# Altium integrated library NSC Amplifier.IntLib: 715 symbols (part 18 of 19)
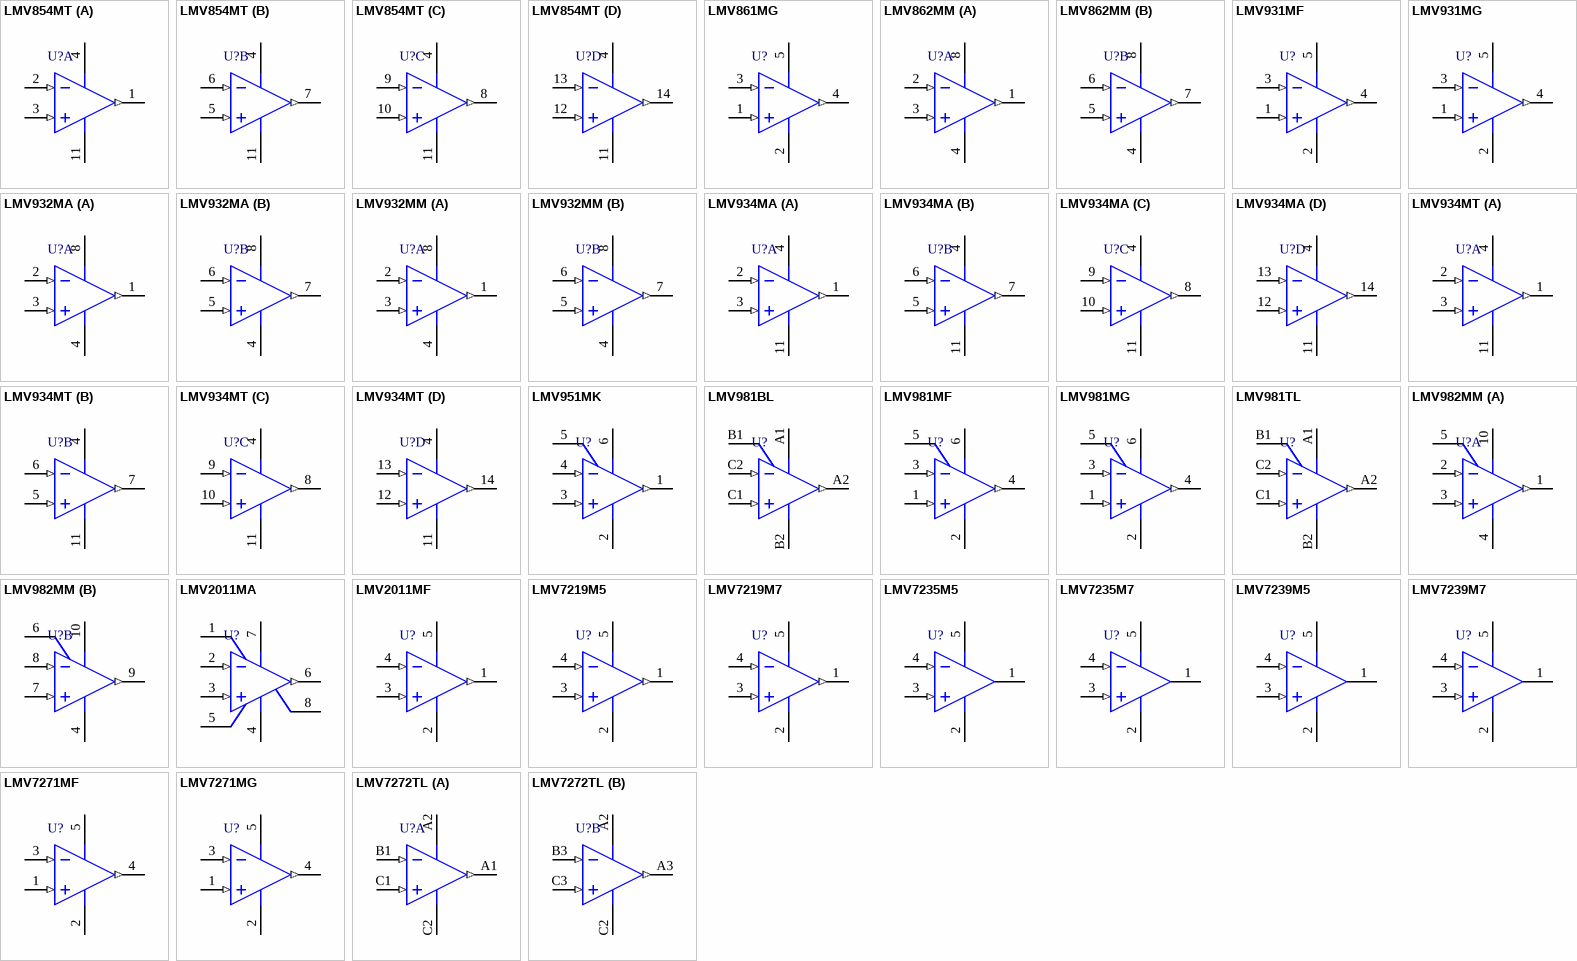
[diagram p55: symbols LMV854MT to LMV7272TL]

## LMV951MK
designator U?
1V, 2.7 MHz, Rail-to-Rail Input and  Output Amplifier with Shutdown Option; PartNumber: LMV951MK; Manufacturer: National Semiconductor; CompType: Amplifiers; PackageTopMarking: AS3A*XTT; Published: 4-Dec-2008; LatestRevisionDate: 13-Jan-2009; LatestRevisionNote: Sim Model Added.; DatasheetVersion: Dec-2006; PackageVersion: revD, Jul-2005; PackageReference: MK06A; Publisher: Altium Limited; PackageDescription: Molded TSOT, 2.97 x 1.65 x 0.87mm Body, 6 Lead, 0.95mm Pitch; RoHS: Y; PinCount: 6; DigiKeyPartNumber: LMV951MKCT-ND; Code_JEDEC: MO-193-AA; Code_IPC: SOT26A-6; ComponentLink1Description: LMV951 Datasheet; ComponentLink1URL: http://www.national.com/ds/LM/LMV951.pdf; ComponentLink2Description: LMV951 Web Page; ComponentLink2URL: http://www.national.com/pf/LM/LMV951.html; ComponentLink3Description: MK06A Package Page; ComponentLink3URL: http://www.national.com/packaging/folders/mk06a.html
footprint MK06A_N (SOT23, 6-Leads, Body 3.0x1.7mm, Pitch 0.95mm, Lead Span 2.9mm, IPC Medium Density)
footprint MK06A_L (SOT23, 6-Leads, Body 3.0x1.7mm, Pitch 0.95mm, Lead Span 2.9mm, IPC High Density)
footprint MK06A_M (SOT23, 6-Leads, Body 3.0x1.7mm, Pitch 0.95mm, Lead Span 2.9mm, IPC Low Density)
simulation model LMV951 (SUBCKT)
pins: 1 OUT (out), 2 V- (power), 3 IN+ (in), 4 IN- (in), 5 SHDN, 6 V+ (power)

## LMV981BL
designator U?
Single 1.8V, RRIO Operational Amplifiers with Shutdown; PartNumber: LMV981BL; Manufacturer: National Semiconductor; PackageTopMarking: XVA*I A; Published: 4-Dec-2008; LatestRevisionDate: 13-Jan-2009; LatestRevisionNote: Sim Model Added.; DatasheetVersion: Nov-2005; PackageVersion: revB, Feb-2002; PackageReference: BLA06AAB; Publisher: Altium Limited; PackageDescription: Thin Micro SMD, 6 Bump (Large), 0.5mm Pitch; CompType: Amplifiers; RoHS: N; PinCount: 6; DigiKeyPartNumber: LMV981BLCT-ND; Code_JEDEC: MO-211-BB; ComponentLink1Description: LMV981 Datasheet; ComponentLink1URL: http://www.national.com/ds/LM/LMV981.pdf; ComponentLink2Description: LMV981 Web Page; ComponentLink2URL: http://www.national.com/pf/LM/LMV981.html; ComponentLink3Description: BLA06AAB Package Page; ComponentLink3URL: http://www.national.com/packaging/folders/bla06aab.html
footprint BLA06AAB (Micro SMD, 6-Leads, Body 1.52x1.01mm, Pitch 0.5mm, NSC Recommended)
simulation model LMV981 (SUBCKT)
pins: A1 VDD (power), A2 OUT (out), B1 ~{SHDN}, B2 GND (power), C1 IN+ (in), C2 IN- (in)

## LMV981MF
designator U?
Single 1.8V, RRIO Operational Amplifiers with Shutdown; PartNumber: LMV981MF; Manufacturer: National Semiconductor; PackageTopMarking: A78A*XTT; Published: 4-Dec-2008; LatestRevisionDate: 13-Jan-2009; LatestRevisionNote: Sim Model Added.; DatasheetVersion: Nov-2005; PackageVersion: revC, Sep-2005; PackageReference: MF06A; Publisher: Altium Limited; PackageDescription: Molded SOT-23, .115 x .063 x .040in Body, 6 Lead, .0375in in Pitch; CompType: Amplifiers; RoHS: Y; PinCount: 6; DigiKeyPartNumber: LMV981MFCT-ND; Code_JEDEC: MO-178-AB; Code_IPC: SOT26A-6; ComponentLink1Description: LMV981 Datasheet; ComponentLink1URL: http://www.national.com/ds/LM/LMV981.pdf; ComponentLink2Description: LMV981 Web Page; ComponentLink2URL: http://www.national.com/pf/LM/LMV981.html; ComponentLink3Description: MF06A Package Page; ComponentLink3URL: http://www.national.com/packaging/folders/mf06a.html
footprint MF06A_N (SOT23, 6-Leads, Body 2.9x1.6mm, Pitch 0.95mm, Lead Span 2.8mm, IPC Medium Density)
footprint MF06A_L (SOT23, 6-Leads, Body 2.9x1.6mm, Pitch 0.95mm, Lead Span 2.8mm, IPC High Density)
footprint MF06A_M (SOT23, 6-Leads, Body 2.9x1.6mm, Pitch 0.95mm, Lead Span 2.8mm, IPC Low Density)
simulation model LMV981 (SUBCKT)
pins: 1 IN+ (in), 2 GND (power), 3 IN- (in), 4 OUT (out), 5 ~{SHDN}, 6 VDD (power)

## LMV981MG
designator U?
Single 1.8V, RRIO Operational Amplifiers with Shutdown; PartNumber: LMV981MG; Manufacturer: National Semiconductor; PackageTopMarking: A77*XTT; Published: 4-Dec-2008; LatestRevisionDate: 13-Jan-2009; LatestRevisionNote: Sim Model Added.; DatasheetVersion: Nov-2005; PackageVersion: revB, Jun-2007; PackageReference: MAA06A; Publisher: Altium Limited; PackageDescription: Molded SC-70, 2 x 1.25 x .9mm, 6 Lead, 0.65mm Pitch; CompType: Amplifiers; RoHS: O; PinCount: 6; DigiKeyPartNumber: LMV981MGCT-ND; ComponentLink1Description: LMV981 Datasheet; ComponentLink1URL: http://www.national.com/ds/LM/LMV981.pdf; ComponentLink2Description: LMV981 Web Page; ComponentLink2URL: http://www.national.com/pf/LM/LMV981.html; ComponentLink3Description: MAA06A Package Page; ComponentLink3URL: http://www.national.com/packaging/folders/maa06a.html
footprint MAA06A_N (SOT363, 6-Leads, Body 2x1.3mm, Pitch 0.65mm, Lead Span 2.1mm, IPC Medium Density)
footprint MAA06A_L (SOT363, 6-Leads, Body 2x1.3mm, Pitch 0.65mm, Lead Span 2.1mm, IPC High Density)
footprint MAA06A_M (SOT363, 6-Leads, Body 2x1.3mm, Pitch 0.65mm, Lead Span 2.1mm, IPC Low Density)
simulation model LMV981 (SUBCKT)
pins: 1 IN+ (in), 2 GND (power), 3 IN- (in), 4 OUT (out), 5 ~{SHDN}, 6 VDD (power)

## LMV981TL
designator U?
Single 1.8V, RRIO Operational Amplifiers with Shutdown; PartNumber: LMV981TL; Manufacturer: National Semiconductor; PackageTopMarking: XVA*I H; Published: 4-Dec-2008; LatestRevisionDate: 13-Jan-2009; LatestRevisionNote: Sim Model Added.; DatasheetVersion: Nov-2005; PackageVersion: revC, Jan-2004; PackageReference: TLA06BBA; Publisher: Altium Limited; PackageDescription: Thin Micro SMD, 6 Bump (Large), 0.5mm Pitch; CompType: Amplifiers; RoHS: Y; PinCount: 6; DigiKeyPartNumber: LMV981TLCT-ND; Code_JEDEC: MO-211-DB; ComponentLink1Description: LMV981 Datasheet; ComponentLink1URL: http://www.national.com/ds/LM/LMV981.pdf; ComponentLink2Description: LMV981 Web Page; ComponentLink2URL: http://www.national.com/pf/LM/LMV981.html; ComponentLink3Description: TLA06BBA Package Page; ComponentLink3URL: http://www.national.com/packaging/folders/tla06bba.html
footprint TLA06BBA (Micro SMD, 6-Leads, Body 1.54x1.03mm, Pitch 0.5mm, NSC Recommended)
simulation model LMV981 (SUBCKT)
pins: A1 VDD (power), A2 OUT (out), B1 ~{SHDN}, B2 GND (power), C1 IN+ (in), C2 IN- (in)

## LMV982MM
designator U?
Dual 1.8V, RRIO Operational Amplifiers with Shutdown; PartNumber: LMV982MM; Manufacturer: National Semiconductor; PackageTopMarking: ZXTT*A87A; Published: 4-Dec-2008; LatestRevisionDate: 13-Jan-2009; LatestRevisionNote: Sim Model Added.; DatasheetVersion: Nov-2005; PackageVersion: revB, Jul-2003; PackageReference: MUB10A; Publisher: Altium Limited; PackageDescription: Mini-SO, Molded, .118 x .118 x .034in Body, 10 Lead, .0197in Pitch; CompType: Amplifiers; RoHS: Y; PinCount: 10; DigiKeyPartNumber: LMV982MMCT-ND; Code_JEDEC: MO-187-BA; ComponentLink1Description: LMV982 Datasheet; ComponentLink1URL: http://www.national.com/ds/LM/LMV982.pdf; ComponentLink2Description: LMV982 Web Page; ComponentLink2URL: http://www.national.com/pf/LM/LMV982.html; ComponentLink3Description: MUB10A Package Page; ComponentLink3URL: http://www.national.com/packaging/folders/mub10a.html
footprint MUB10A_N (TSSOP, 10-Leads, Body 3x3mm, Pitch 0.5mm, IPC Medium Density)
footprint MUB10A_L (TSSOP, 10-Leads, Body 3x3mm, Pitch 0.5mm, IPC High Density)
footprint MUB10A_M (TSSOP, 10-Leads, Body 3x3mm, Pitch 0.5mm, IPC Low Density)
simulation model LMV981 (SUBCKT)
pins on every part: 4 V- (power), 10 V+ (power)
part A pins: 1 OUTA (out), 2 INA- (in), 3 INA+ (in), 5 ~{SHDNA}
part B pins: 6 ~{SHDNB}, 7 INB+ (in), 8 INB- (in), 9 OUTB (out)

## LMV2011MA
designator U?
High Precision, Rail-to-Rail Output Operational Amplifier; PartNumber: LMV2011MA; Manufacturer: National Semiconductor; CompType: Amplifiers; PackageTopMarking: NSZXTT*LMV20*11MA; Published: 4-Dec-2008; LatestRevisionDate: 13-Jan-2009; LatestRevisionNote: Sim Model Added.; DatasheetVersion: Jul-2008; PackageVersion: revL, Sep-2006; PackageReference: M08A; Publisher: Altium Limited; PackageDescription: SOIC Narrow, 4.9 x 3.9 x 1.45mm, 8 Lead, 1.27mm Pitch; RoHS: Y; PinCount: 8; DigiKeyPartNumber: LMV2011MA-ND; Code_JEDEC: MS-012-AA; Code_IPC: SOIC127P600-8; ComponentLink1Description: LMV2011 Datasheet; ComponentLink1URL: http://www.national.com/ds/LM/LMV2011.pdf; ComponentLink2Description: LMV2011 Web Page; ComponentLink2URL: http://www.national.com/pf/LM/LMV2011.html; ComponentLink3Description: M08A Package Page; ComponentLink3URL: http://www.national.com/packaging/folders/m08a.html
footprint M08A_N (SOIC, 8-Leads, Body 4.9x3.9mm, Pitch 1.27mm, IPC Medium Density)
footprint M08A_L (SOIC, 8-Leads, Body 4.9x3.9mm, Pitch 1.27mm, IPC High Density)
footprint M08A_M (SOIC, 8-Leads, Body 4.9x3.9mm, Pitch 1.27mm, IPC Low Density)
simulation model LMV2011 (SUBCKT)
pins: 1 NC, 2 IN- (in), 3 IN+ (in), 4 V- (power), 5 NC, 6 OUT (out), 7 V+ (power), 8 NC

## LMV2011MF
designator U?
High Precision, Rail-to-Rail Output Operational Amplifier; PartNumber: LMV2011MF; Manufacturer: National Semiconductor; CompType: Amplifiers; PackageTopMarking: A84A*XTT; Published: 4-Dec-2008; LatestRevisionDate: 13-Jan-2009; LatestRevisionNote: Sim Model Added.; DatasheetVersion: Jul-2008; PackageVersion: revD, Aug-2008; PackageReference: MF05A; Publisher: Altium Limited; PackageDescription: Molded SOT-23, .115 x .063 x .040 in Body, 5 Lead, .0375 in Pitch; RoHS: O; PinCount: 5; DigiKeyPartNumber: LMV2011MFCT-ND; Code_IPC: SOT23-5; ComponentLink1Description: LMV2011 Datasheet; ComponentLink1URL: http://www.national.com/ds/LM/LMV2011.pdf; ComponentLink2Description: LMV2011 Web Page; ComponentLink2URL: http://www.national.com/pf/LM/LMV2011.html; ComponentLink3Description: MF05A Package Page; ComponentLink3URL: http://www.national.com/packaging/folders/mf05a.html
footprint MF05A_N (SOT23, 5-Leads, Body 2.9x1.6mm, Pitch 0.95mm, Lead Span 2.8mm, IPC Medium Density)
footprint MF05A_L (SOT23, 5-Leads, Body 2.9x1.6mm, Pitch 0.95mm, Lead Span 2.8mm, IPC High Density)
footprint MF05A_M (SOT23, 5-Leads, Body 2.9x1.6mm, Pitch 0.95mm, Lead Span 2.8mm, IPC Low Density)
simulation model LMV2011 (SUBCKT)
pins: 1 OUT (out), 2 V- (power), 3 IN+ (in), 4 IN- (in), 5 V+ (power)

## LMV7219M5
designator U?
7 nsec, 2.7V to 5V Comparator with Rail-to- Rail Output; PartNumber: LMV7219M5; Manufacturer: National Semiconductor; CompType: Amplifiers; PackageTopMarking: C14A*XTT; Published: 4-Dec-2008; LatestRevisionDate: 13-Jan-2009; LatestRevisionNote: Sim Model Added.; DatasheetVersion: Nov-2004; PackageVersion: revD, Aug-2008; PackageReference: MF05A; Publisher: Altium Limited; PackageDescription: Molded SOT-23, .115 x .063 x .040 in Body, 5 Lead, .0375 in Pitch; RoHS: O; PinCount: 5; DigiKeyPartNumber: LMV7219M5CT-ND; Code_IPC: SOT23-5; ComponentLink1Description: LMV7219 Datasheet; ComponentLink1URL: http://www.national.com/ds/LM/LMV7219.pdf; ComponentLink2Description: LMV7219 Web Page; ComponentLink2URL: http://www.national.com/pf/LM/LMV7219.html; ComponentLink3Description: MF05A Package Page; ComponentLink3URL: http://www.national.com/packaging/folders/mf05a.html
footprint MF05A_N (SOT23, 5-Leads, Body 2.9x1.6mm, Pitch 0.95mm, Lead Span 2.8mm, IPC Medium Density)
footprint MF05A_L (SOT23, 5-Leads, Body 2.9x1.6mm, Pitch 0.95mm, Lead Span 2.8mm, IPC High Density)
footprint MF05A_M (SOT23, 5-Leads, Body 2.9x1.6mm, Pitch 0.95mm, Lead Span 2.8mm, IPC Low Density)
simulation model LMV7219 (SUBCKT)
pins: 1 OUT (out), 2 V- (power), 3 IN+ (in), 4 IN- (in), 5 V+ (power)

## LMV7219M7
designator U?
7 nsec, 2.7V to 5V Comparator with Rail-to- Rail Output; PartNumber: LMV7219M7; Manufacturer: National Semiconductor; CompType: Amplifiers; PackageTopMarking: C15*XTT; Published: 4-Dec-2008; LatestRevisionDate: 13-Jan-2009; LatestRevisionNote: Sim Model Added.; DatasheetVersion: Nov-2004; PackageVersion: revD, Jun-2007; PackageReference: MAA05A; Publisher: Altium Limited; PackageDescription: Molded SC-70, 2 x 1.25 x .9mm, 5 Lead, 0.65mm Pitch; RoHS: O; PinCount: 5; DigiKeyPartNumber: LMV7219M7CT-ND; Code_JEITA: SC-88A; Code_JEDEC: MO-203-AA; Code_IPC: SOT353-5; ComponentLink1Description: LMV7219 Datasheet; ComponentLink1URL: http://www.national.com/ds/LM/LMV7219.pdf; ComponentLink2Description: LMV7219 Web Page; ComponentLink2URL: http://www.national.com/pf/LM/LMV7219.html; ComponentLink3Description: MAA05A Package Page; ComponentLink3URL: http://www.national.com/packaging/folders/maa05a.html
footprint MAA05A_N (SOT353, 5-Leads, Body 2x1.3mm, Pitch 0.65mm, Lead Span 2.1mm, IPC Medium Density)
footprint MAA05A_L (SOT353, 5-Leads, Body 2x1.3mm, Pitch 0.65mm, Lead Span 2.1mm, IPC High Density)
footprint MAA05A_M (SOT353, 5-Leads, Body 2x1.3mm, Pitch 0.65mm, Lead Span 2.1mm, IPC Low Density)
simulation model LMV7219 (SUBCKT)
pins: 1 OUT (out), 2 V- (power), 3 IN+ (in), 4 IN- (in), 5 V+ (power)

## LMV7235M5
designator U?
45 nsec, Ultra Low Power, Low Voltage, Rail-toRail Input Comparator with Open-Drain/Push-Pull Output; PartNumber: LMV7235M5; Manufacturer: National Semiconductor; CompType: Amplifiers; PackageTopMarking: C21A*XTT; Published: 4-Dec-2008; DatasheetVersion: Jul-2008; PackageVersion: revD, Aug-2008; PackageReference: MF05A; Publisher: Altium Limited; PackageDescription: Molded SOT-23, .115 x .063 x .040 in Body, 5 Lead, .0375 in Pitch; RoHS: O; PinCount: 5; DigiKeyPartNumber: LMV7235M5CT-ND; Code_IPC: SOT23-5; ComponentLink1Description: LMV7235 Datasheet; ComponentLink1URL: http://www.national.com/ds/LM/LMV7235.pdf; ComponentLink2Description: LMV7235 Web Page; ComponentLink2URL: http://www.national.com/pf/LM/LMV7235.html; ComponentLink3Description: MF05A Package Page; ComponentLink3URL: http://www.national.com/packaging/folders/mf05a.html
footprint MF05A_N (SOT23, 5-Leads, Body 2.9x1.6mm, Pitch 0.95mm, Lead Span 2.8mm, IPC Medium Density)
footprint MF05A_L (SOT23, 5-Leads, Body 2.9x1.6mm, Pitch 0.95mm, Lead Span 2.8mm, IPC High Density)
footprint MF05A_M (SOT23, 5-Leads, Body 2.9x1.6mm, Pitch 0.95mm, Lead Span 2.8mm, IPC Low Density)
pins: 1 VOUT (oc), 2 V- (power), 3 IN+ (in), 4 IN- (in), 5 V+ (power)

## LMV7235M7
designator U?
45 nsec, Ultra Low Power, Low Voltage, Rail-toRail Input Comparator with Open-Drain/Push-Pull Output; PartNumber: LMV7235M7; Manufacturer: National Semiconductor; CompType: Amplifiers; PackageTopMarking: C21*XTT; Published: 4-Dec-2008; DatasheetVersion: Jul-2008; PackageVersion: revD, Jun-2007; PackageReference: MAA05A; Publisher: Altium Limited; PackageDescription: Molded SC-70, 2 x 1.25 x .9mm, 5 Lead, 0.65mm Pitch; RoHS: O; PinCount: 5; DigiKeyPartNumber: LMV7235M7CT-ND; Code_JEITA: SC-88A; Code_JEDEC: MO-203-AA; Code_IPC: SOT353-5; ComponentLink1Description: LMV7235 Datasheet; ComponentLink1URL: http://www.national.com/ds/LM/LMV7235.pdf; ComponentLink2Description: LMV7235 Web Page; ComponentLink2URL: http://www.national.com/pf/LM/LMV7235.html; ComponentLink3Description: MAA05A Package Page; ComponentLink3URL: http://www.national.com/packaging/folders/maa05a.html
footprint MAA05A_N (SOT353, 5-Leads, Body 2x1.3mm, Pitch 0.65mm, Lead Span 2.1mm, IPC Medium Density)
footprint MAA05A_L (SOT353, 5-Leads, Body 2x1.3mm, Pitch 0.65mm, Lead Span 2.1mm, IPC High Density)
footprint MAA05A_M (SOT353, 5-Leads, Body 2x1.3mm, Pitch 0.65mm, Lead Span 2.1mm, IPC Low Density)
pins: 1 VOUT (oc), 2 V- (power), 3 IN+ (in), 4 IN- (in), 5 V+ (power)

## LMV7239M5
designator U?
45 nsec, Ultra Low Power, Low Voltage, Rail-to-Rail Input Comparator with Open-Drain/Push-Pull Output; PartNumber: LMV7239M5; Manufacturer: National Semiconductor; CompType: Amplifiers; PackageTopMarking: C20A*XTT; Published: 4-Dec-2008; DatasheetVersion: Jul-2008; PackageVersion: revD, Aug-2008; PackageReference: MF05A; Publisher: Altium Limited; PackageDescription: Molded SOT-23, .115 x .063 x .040 in Body, 5 Lead, .0375 in Pitch; RoHS: O; PinCount: 5; DigiKeyPartNumber: LMV7239M5CT-ND; Code_IPC: SOT23-5; ComponentLink1Description: LMV7239 Datasheet; ComponentLink1URL: http://www.national.com/ds/LM/LMV7239.pdf; ComponentLink2Description: LMV7239 Web Page; ComponentLink2URL: http://www.national.com/pf/LM/LMV7239.html; ComponentLink3Description: MF05A Package Page; ComponentLink3URL: http://www.national.com/packaging/folders/mf05a.html
footprint MF05A_N (SOT23, 5-Leads, Body 2.9x1.6mm, Pitch 0.95mm, Lead Span 2.8mm, IPC Medium Density)
footprint MF05A_L (SOT23, 5-Leads, Body 2.9x1.6mm, Pitch 0.95mm, Lead Span 2.8mm, IPC High Density)
footprint MF05A_M (SOT23, 5-Leads, Body 2.9x1.6mm, Pitch 0.95mm, Lead Span 2.8mm, IPC Low Density)
pins: 1 VOUT (oc), 2 V- (power), 3 IN+ (in), 4 IN- (in), 5 V+ (power)

## LMV7239M7
designator U?
45 nsec, Ultra Low Power, Low Voltage, Rail-to-Rail Input Comparator with Open-Drain/Push-Pull Output; PartNumber: LMV7239M7; Manufacturer: National Semiconductor; CompType: Amplifiers; PackageTopMarking: C20*XTT; Published: 4-Dec-2008; DatasheetVersion: Jul-2008; PackageVersion: revD, Jun-2007; PackageReference: MAA05A; Publisher: Altium Limited; PackageDescription: Molded SC-70, 2 x 1.25 x .9mm, 5 Lead, 0.65mm Pitch; RoHS: O; PinCount: 5; DigiKeyPartNumber: LMV7239M7CT-ND; Code_JEITA: SC-88A; Code_JEDEC: MO-203-AA; Code_IPC: SOT353-5; ComponentLink1Description: LMV7239 Datasheet; ComponentLink1URL: http://www.national.com/ds/LM/LMV7239.pdf; ComponentLink2Description: LMV7239 Web Page; ComponentLink2URL: http://www.national.com/pf/LM/LMV7239.html; ComponentLink3Description: MAA05A Package Page; ComponentLink3URL: http://www.national.com/packaging/folders/maa05a.html
footprint MAA05A_N (SOT353, 5-Leads, Body 2x1.3mm, Pitch 0.65mm, Lead Span 2.1mm, IPC Medium Density)
footprint MAA05A_L (SOT353, 5-Leads, Body 2x1.3mm, Pitch 0.65mm, Lead Span 2.1mm, IPC High Density)
footprint MAA05A_M (SOT353, 5-Leads, Body 2x1.3mm, Pitch 0.65mm, Lead Span 2.1mm, IPC Low Density)
pins: 1 VOUT (oc), 2 V- (power), 3 IN+ (in), 4 IN- (in), 5 V+ (power)

## LMV7271MF
designator U?
Single 1.8V Low Power Comparators with Rail-to-Rail Input; PartNumber: LMV7271MF; Manufacturer: National Semiconductor; CompType: Amplifiers; PackageTopMarking: C25A*XTT; Published: 4-Dec-2008; LatestRevisionDate: 13-Jan-2009; LatestRevisionNote: Sim Model Added.; DatasheetVersion: May-2008; PackageVersion: revD, Aug-2008; PackageReference: MF05A; Publisher: Altium Limited; PackageDescription: Molded SOT-23, .115 x .063 x .040 in Body, 5 Lead, .0375 in Pitch; RoHS: Y; PinCount: 5; DigiKeyPartNumber: LMV7271MFCT-ND; Code_IPC: SOT23-5; ComponentLink1Description: LMV7271 Datasheet; ComponentLink1URL: http://www.national.com/ds/LM/LMV7271.pdf; ComponentLink2Description: LMV7271 Web Page; ComponentLink2URL: http://www.national.com/pf/LM/LMV7271.html; ComponentLink3Description: MF05A Package Page; ComponentLink3URL: http://www.national.com/packaging/folders/mf05a.html
footprint MF05A_N (SOT23, 5-Leads, Body 2.9x1.6mm, Pitch 0.95mm, Lead Span 2.8mm, IPC Medium Density)
footprint MF05A_L (SOT23, 5-Leads, Body 2.9x1.6mm, Pitch 0.95mm, Lead Span 2.8mm, IPC High Density)
footprint MF05A_M (SOT23, 5-Leads, Body 2.9x1.6mm, Pitch 0.95mm, Lead Span 2.8mm, IPC Low Density)
simulation model LMV7271 (SUBCKT)
pins: 1 IN+ (in), 2 GND (power), 3 IN- (in), 4 OUT (out), 5 V+ (power)

## LMV7271MG
designator U?
Single 1.8V Low Power Comparators with Rail-to-Rail Input; PartNumber: LMV7271MG; Manufacturer: National Semiconductor; CompType: Amplifiers; PackageTopMarking: C34*XTT; Published: 4-Dec-2008; LatestRevisionDate: 13-Jan-2009; LatestRevisionNote: Sim Model Added.; DatasheetVersion: May-2008; PackageVersion: revD, Jun-2007; PackageReference: MAA05A; Publisher: Altium Limited; PackageDescription: Molded SC-70, 2 x 1.25 x .9mm, 5 Lead, 0.65mm Pitch; RoHS: O; PinCount: 5; DigiKeyPartNumber: LMV7271MGCT-ND; Code_JEITA: SC-88A; Code_JEDEC: MO-203-AA; Code_IPC: SOT353-5; ComponentLink1Description: LMV7271 Datasheet; ComponentLink1URL: http://www.national.com/ds/LM/LMV7271.pdf; ComponentLink2Description: LMV7271 Web Page; ComponentLink2URL: http://www.national.com/pf/LM/LMV7271.html; ComponentLink3Description: MAA05A Package Page; ComponentLink3URL: http://www.national.com/packaging/folders/maa05a.html
footprint MAA05A_N (SOT353, 5-Leads, Body 2x1.3mm, Pitch 0.65mm, Lead Span 2.1mm, IPC Medium Density)
footprint MAA05A_L (SOT353, 5-Leads, Body 2x1.3mm, Pitch 0.65mm, Lead Span 2.1mm, IPC High Density)
footprint MAA05A_M (SOT353, 5-Leads, Body 2x1.3mm, Pitch 0.65mm, Lead Span 2.1mm, IPC Low Density)
simulation model LMV7271 (SUBCKT)
pins: 1 IN+ (in), 2 GND (power), 3 IN- (in), 4 OUT (out), 5 V+ (power)

## LMV7272TL
designator U?
Dual 1.8V Low Power Comparators with Rail-to-Rail Input; PartNumber: LMV7272TL; Manufacturer: National Semiconductor; CompType: Amplifiers; PackageTopMarking: XVC*I 01; Published: 4-Dec-2008; LatestRevisionDate: 13-Jan-2009; LatestRevisionNote: Sim Model Added.; DatasheetVersion: May-2008; PackageVersion: revC, Jan-2004; PackageReference: TLA08AAA; Publisher: Altium Limited; PackageDescription: Thin Micro SMD, 8 Bump (Large), 0.5mm Pitch; RoHS: O; PinCount: 8; DigiKeyPartNumber: LMV7272TLCT-ND; ComponentLink1Description: LMV7272 Datasheet; ComponentLink1URL: http://www.national.com/ds/LM/LMV7272.pdf; ComponentLink2Description: LMV7272 Web Page; ComponentLink2URL: http://www.national.com/pf/LM/LMV7272.html; ComponentLink3Description: TLA08AAA Package Page; ComponentLink3URL: http://www.national.com/packaging/folders/tla08aaa.html
footprint TLA08AAA (Micro SMD, 8-Leads, Body 1.52x1.52mm, Pitch 0.5mm, NSC Recommended)
simulation model LMV7271 (SUBCKT)
pins on every part: A2 V+ (power), C2 V- (power)
part A pins: A1 OUTA (out), B1 INA- (in), C1 INA+ (in)
part B pins: A3 OUTB (out), B3 INB- (in), C3 INB+ (in)

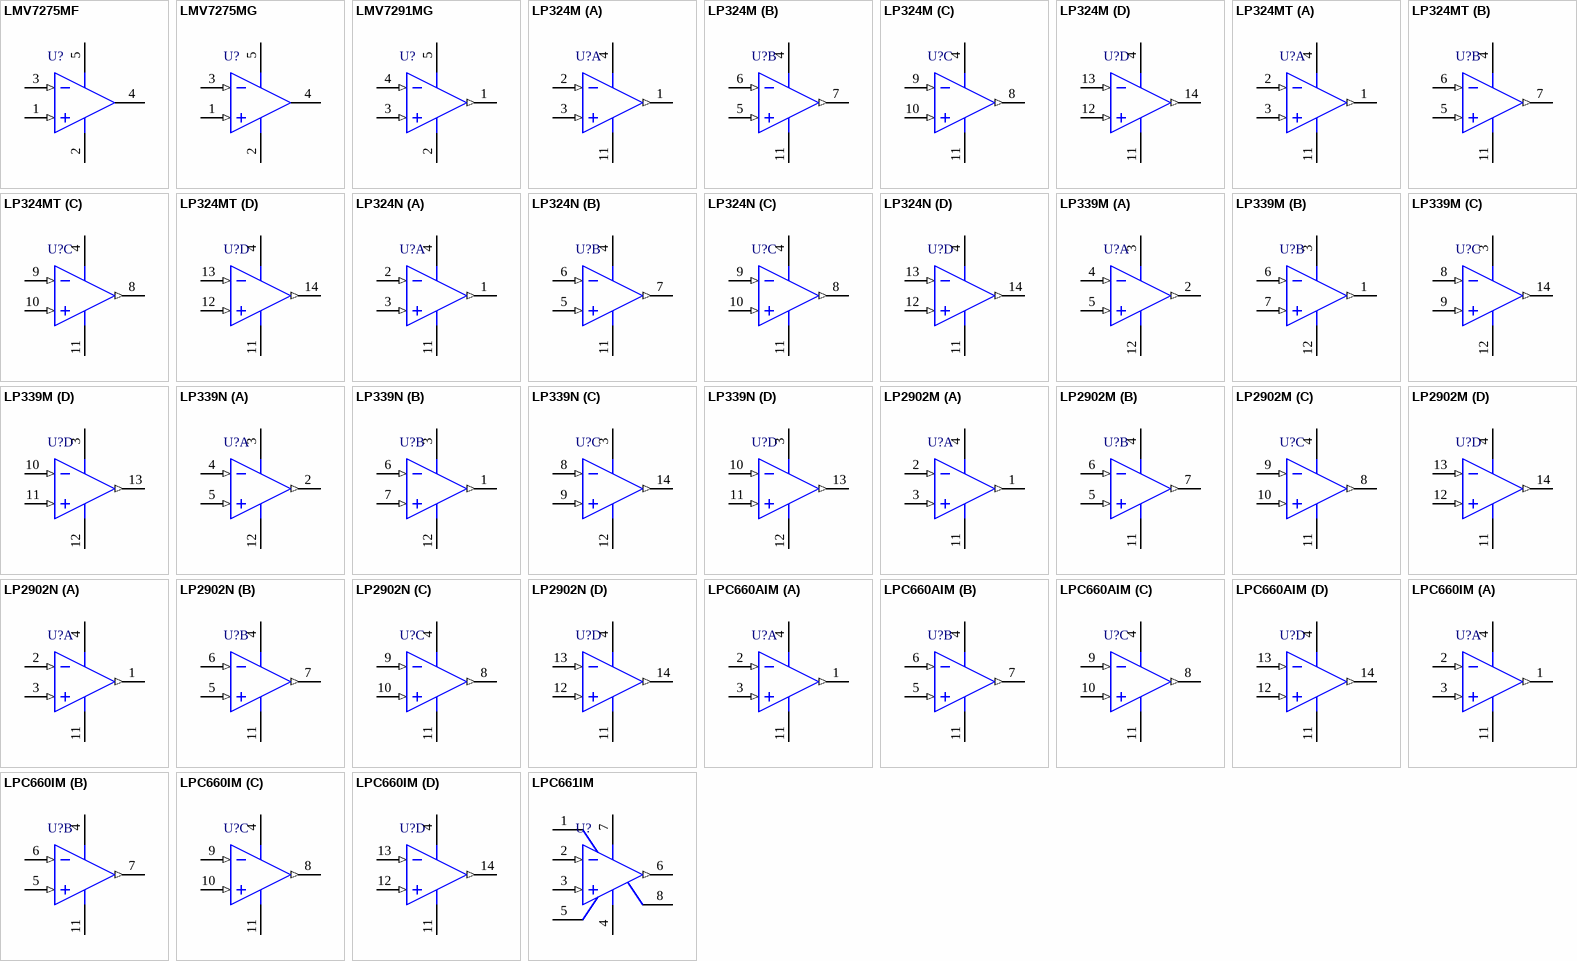
[diagram p37: symbols LMV7275MF to LPC661IM]

## LMV7275MF
designator U?
Single 1.8V Low Power Comparators with Rail-to-Rail Input; PartNumber: LMV7275MF; Manufacturer: National Semiconductor; CompType: Amplifiers; PackageTopMarking: C26A*XTT; Published: 4-Dec-2008; LatestRevisionDate: 13-Jan-2009; LatestRevisionNote: Sim Model Added.; DatasheetVersion: May-2008; PackageVersion: revD, Aug-2008; PackageReference: MF05A; Publisher: Altium Limited; PackageDescription: Molded SOT-23, .115 x .063 x .040 in Body, 5 Lead, .0375 in Pitch; RoHS: O; PinCount: 5; DigiKeyPartNumber: LMV7275MFCT-ND; Code_IPC: SOT23-5; ComponentLink1Description: LMV7275 Datasheet; ComponentLink1URL: http://www.national.com/ds/LM/LMV7275.pdf; ComponentLink2Description: LMV7275 Web Page; ComponentLink2URL: http://www.national.com/pf/LM/LMV7275.html; ComponentLink3Description: MF05A Package Page; ComponentLink3URL: http://www.national.com/packaging/folders/mf05a.html
footprint MF05A_N (SOT23, 5-Leads, Body 2.9x1.6mm, Pitch 0.95mm, Lead Span 2.8mm, IPC Medium Density)
footprint MF05A_L (SOT23, 5-Leads, Body 2.9x1.6mm, Pitch 0.95mm, Lead Span 2.8mm, IPC High Density)
footprint MF05A_M (SOT23, 5-Leads, Body 2.9x1.6mm, Pitch 0.95mm, Lead Span 2.8mm, IPC Low Density)
simulation model LMV7271 (SUBCKT)
pins: 1 IN+ (in), 2 GND (power), 3 IN- (in), 4 OUT (oc), 5 V+ (power)

## LMV7275MG
designator U?
Single 1.8V Low Power Comparators with Rail-to-Rail Input; PartNumber: LMV7275MG; Manufacturer: National Semiconductor; CompType: Amplifiers; PackageTopMarking: C35*XTT; Published: 4-Dec-2008; LatestRevisionDate: 13-Jan-2009; LatestRevisionNote: Sim Model Added.; DatasheetVersion: May-2008; PackageVersion: revD, Jun-2007; PackageReference: MAA05A; Publisher: Altium Limited; PackageDescription: Molded SC-70, 2 x 1.25 x .9mm, 5 Lead, 0.65mm Pitch; RoHS: O; PinCount: 5; DigiKeyPartNumber: LMV7275MGCT-ND; Code_JEITA: SC-88A; Code_JEDEC: MO-203-AA; Code_IPC: SOT353-5; ComponentLink1Description: LMV7275 Datasheet; ComponentLink1URL: http://www.national.com/ds/LM/LMV7275.pdf; ComponentLink2Description: LMV7275 Web Page; ComponentLink2URL: http://www.national.com/pf/LM/LMV7275.html; ComponentLink3Description: MAA05A Package Page; ComponentLink3URL: http://www.national.com/packaging/folders/maa05a.html
footprint MAA05A_N (SOT353, 5-Leads, Body 2x1.3mm, Pitch 0.65mm, Lead Span 2.1mm, IPC Medium Density)
footprint MAA05A_L (SOT353, 5-Leads, Body 2x1.3mm, Pitch 0.65mm, Lead Span 2.1mm, IPC High Density)
footprint MAA05A_M (SOT353, 5-Leads, Body 2x1.3mm, Pitch 0.65mm, Lead Span 2.1mm, IPC Low Density)
simulation model LMV7271 (SUBCKT)
pins: 1 IN+ (in), 2 GND (power), 3 IN- (in), 4 OUT (oc), 5 V+ (power)

## LMV7291MG
designator U?
Single 1.8V Power Comparator with Rail-to-Rail Input; PartNumber: LMV7291MG; Manufacturer: National Semiconductor; CompType: Amplifiers; PackageTopMarking: C36*XTT; Published: 4-Dec-2008; LatestRevisionDate: 13-Jan-2009; LatestRevisionNote: Sim Model Added.; DatasheetVersion: Mar-2004; PackageVersion: revD, Jun-2007; PackageReference: MAA05A; Publisher: Altium Limited; PackageDescription: Molded SC-70, 2 x 1.25 x .9mm, 5 Lead, 0.65mm Pitch; RoHS: Y; PinCount: 5; DigiKeyPartNumber: LMV7291MGCT-ND; Code_JEITA: SC-88A; Code_JEDEC: MO-203-AA; Code_IPC: SOT353-5; ComponentLink1Description: LMV7291 Datasheet; ComponentLink1URL: http://www.national.com/ds/LM/LMV7291.pdf; ComponentLink2Description: LMV7291 Web Page; ComponentLink2URL: http://www.national.com/pf/LM/LMV7291.html; ComponentLink3Description: MAA05A Package Page; ComponentLink3URL: http://www.national.com/packaging/folders/maa05a.html
footprint MAA05A_N (SOT353, 5-Leads, Body 2x1.3mm, Pitch 0.65mm, Lead Span 2.1mm, IPC Medium Density)
footprint MAA05A_L (SOT353, 5-Leads, Body 2x1.3mm, Pitch 0.65mm, Lead Span 2.1mm, IPC High Density)
footprint MAA05A_M (SOT353, 5-Leads, Body 2x1.3mm, Pitch 0.65mm, Lead Span 2.1mm, IPC Low Density)
simulation model LMV7271 (SUBCKT)
pins: 1 OUT (out), 2 GND (power), 3 IN+ (in), 4 IN- (in), 5 V+ (power)

## LP324M
designator U?
Micropower Quad Operational Amplifier; PartNumber: LP324M; Manufacturer: National Semiconductor; CompType: Amplifiers; PackageTopMarking: NSUZXYTT*LP324M; Published: 4-Dec-2008; DatasheetVersion: Jul-2001; PackageVersion: revJ, Jan-1996; PackageReference: M14A; Publisher: Altium Limited; PackageDescription: Molded Package S.O., .150in Wide, 14 Lead; RoHS: O; PinCount: 14; DigiKeyPartNumber: LP324MXCT-ND; Code_JEDEC: MS-012AB; Code_IPC: SOIC127P600-14; ComponentLink1Description: LP324 Datasheet; ComponentLink1URL: http://www.national.com/ds/LP/LP324.pdf; ComponentLink2Description: LP324 Web Page; ComponentLink2URL: http://www.national.com/pf/LP/LP324.html; ComponentLink3Description: M14A Package Page; ComponentLink3URL: http://www.national.com/packaging/folders/m14a.html
footprint M14A_N (SOIC, 14-Leads, Body 8.6x3.9mm, Pitch 1.27mm, IPC Medium Density)
footprint M14A_L (SOIC, 14-Leads, Body 8.6x3.9mm, Pitch 1.27mm, IPC High Density)
footprint M14A_M (SOIC, 14-Leads, Body 8.6x3.9mm, Pitch 1.27mm, IPC Low Density)
pins on every part: 4 V+ (power), 11 GND (power)
part A pins: 1 OUT1 (out), 2 IN1- (in), 3 IN1+ (in)
part B pins: 5 IN2+ (in), 6 IN2- (in), 7 OUT2 (out)
part C pins: 8 OUT3 (out), 9 IN3- (in), 10 IN3+ (in)
part D pins: 12 IN4+ (in), 13 IN4- (in), 14 OUT4 (out)

## LP324MT
designator U?
Micropower Quad Operational Amplifier; PartNumber: LP324MT; Manufacturer: National Semiconductor; CompType: Amplifiers; PackageTopMarking: NSZXYTT*LP324*MT; Published: 4-Dec-2008; DatasheetVersion: Jul-2001; PackageVersion: revD, Jun-2003; PackageReference: MTC14; Publisher: Altium Limited; PackageDescription: Molded TSSOP, JEDEC, 5 x 4.4 x 0.9mm Body, 14 Lead, 0.65mm Pitch; RoHS: Y; PinCount: 14; DigiKeyPartNumber: LP324MT-ND; Code_JEDEC: MO-153-AB-1; ComponentLink1Description: LP324 Datasheet; ComponentLink1URL: http://www.national.com/ds/LP/LP324.pdf; ComponentLink2Description: LP324 Web Page; ComponentLink2URL: http://www.national.com/pf/LP/LP324.html; ComponentLink3Description: MTC14 Package Page; ComponentLink3URL: http://www.national.com/packaging/folders/mtc14.html
footprint MTC14_N (TSOP, 14-Leads, Body 5x4.4mm, Pitch 0.65mm, IPC Medium Density)
footprint MTC14_L (TSOP, 14-Leads, Body 5x4.4mm, Pitch 0.65mm, IPC High Density)
footprint MTC14_M (TSOP, 14-Leads, Body 5x4.4mm, Pitch 0.65mm, IPC Low Density)
pins on every part: 4 V+ (power), 11 GND (power)
part A pins: 1 OUT1 (out), 2 IN1- (in), 3 IN1+ (in)
part B pins: 5 IN2+ (in), 6 IN2- (in), 7 OUT2 (out)
part C pins: 8 OUT3 (out), 9 IN3- (in), 10 IN3+ (in)
part D pins: 12 IN4+ (in), 13 IN4- (in), 14 OUT4 (out)

## LP324N
designator U?
Micropower Quad Operational Amplifier; PartNumber: LP324N; Manufacturer: National Semiconductor; CompType: Amplifiers; PackageTopMarking: NSUZXYYTTE#*LP324N; Published: 4-Dec-2008; DatasheetVersion: Jul-2001; PackageVersion: revG, May-2006; PackageReference: N14A; Publisher: Altium Limited; PackageDescription: MDIP, .750 x .250 x.130in, 14 Lead, .100in Pitch; RoHS: Y; PinCount: 14; DigiKeyPartNumber: LP324N-ND; Code_JEDEC: MS-001-AA; ComponentLink1Description: LP324 Datasheet; ComponentLink1URL: http://www.national.com/ds/LP/LP324.pdf; ComponentLink2Description: LP324 Web Page; ComponentLink2URL: http://www.national.com/pf/LP/LP324.html; ComponentLink3Description: N14A Package Page; ComponentLink3URL: http://www.national.com/packaging/folders/n14a.html
footprint N14A (DIP, 14-Leads, Row Spacing 7.62mm, Pitch 2.54mm, Body 19.56x6.35mm)
pins on every part: 4 V+ (power), 11 GND (power)
part A pins: 1 OUT1 (out), 2 IN1- (in), 3 IN1+ (in)
part B pins: 5 IN2+ (in), 6 IN2- (in), 7 OUT2 (out)
part C pins: 8 OUT3 (out), 9 IN3- (in), 10 IN3+ (in)
part D pins: 12 IN4+ (in), 13 IN4- (in), 14 OUT4 (out)

## LP339M
designator U?
Ultra-Low Power Quad Comparator; PartNumber: LP339M; Manufacturer: National Semiconductor; CompType: Amplifiers; PackageTopMarking: NSUZXYTT*LP339M; Published: 4-Dec-2008; DatasheetVersion: Aug-2000; PackageVersion: revJ, Jan-1996; PackageReference: M14A; Publisher: Altium Limited; PackageDescription: Molded Package S.O., .150in Wide, 14 Lead; RoHS: O; PinCount: 14; DigiKeyPartNumber: LP339MXCT-ND; Code_JEDEC: MS-012AB; Code_IPC: SOIC127P600-14; ComponentLink1Description: LP339 Datasheet; ComponentLink1URL: http://www.national.com/ds/LP/LP339.pdf; ComponentLink2Description: LP339 Web Page; ComponentLink2URL: http://www.national.com/pf/LP/LP339.html; ComponentLink3Description: M14A Package Page; ComponentLink3URL: http://www.national.com/packaging/folders/m14a.html
footprint M14A_N (SOIC, 14-Leads, Body 8.6x3.9mm, Pitch 1.27mm, IPC Medium Density)
footprint M14A_L (SOIC, 14-Leads, Body 8.6x3.9mm, Pitch 1.27mm, IPC High Density)
footprint M14A_M (SOIC, 14-Leads, Body 8.6x3.9mm, Pitch 1.27mm, IPC Low Density)
pins on every part: 3 V+ (power), 12 GND (power)
part A pins: 2 OUT1 (out), 4 IN1- (in), 5 IN1+ (in)
part B pins: 1 OUT2 (out), 6 IN2- (in), 7 IN2+ (in)
part C pins: 8 IN3- (in), 9 IN3+ (in), 14 OUT3 (out)
part D pins: 10 IN4- (in), 11 IN4+ (in), 13 OUT4 (out)

## LP339N
designator U?
Ultra-Low Power Quad Comparator; PartNumber: LP339N; Manufacturer: National Semiconductor; CompType: Amplifiers; PackageTopMarking: NSUZXYYTTE#*LP339N; Published: 4-Dec-2008; DatasheetVersion: Aug-2000; PackageVersion: revG, May-2006; PackageReference: N14A; Publisher: Altium Limited; PackageDescription: MDIP, .750 x .250 x.130in, 14 Lead, .100in Pitch; RoHS: O; PinCount: 14; DigiKeyPartNumber: LP339NNS-ND; Code_JEDEC: MS-001-AA; ComponentLink1Description: LP339 Datasheet; ComponentLink1URL: http://www.national.com/ds/LP/LP339.pdf; ComponentLink2Description: LP339 Web Page; ComponentLink2URL: http://www.national.com/pf/LP/LP339.html; ComponentLink3Description: N14A Package Page; ComponentLink3URL: http://www.national.com/packaging/folders/n14a.html
footprint N14A (DIP, 14-Leads, Row Spacing 7.62mm, Pitch 2.54mm, Body 19.56x6.35mm)
pins on every part: 3 V+ (power), 12 GND (power)
part A pins: 2 OUT1 (out), 4 IN1- (in), 5 IN1+ (in)
part B pins: 1 OUT2 (out), 6 IN2- (in), 7 IN2+ (in)
part C pins: 8 IN3- (in), 9 IN3+ (in), 14 OUT3 (out)
part D pins: 10 IN4- (in), 11 IN4+ (in), 13 OUT4 (out)

## LP2902M
designator U?
Micropower Quad Operational Amplifier; PartNumber: LP2902M; Manufacturer: National Semiconductor; CompType: Amplifiers; PackageTopMarking: NSUZXYTT*LP2902M; Published: 4-Dec-2008; DatasheetVersion: Jul-2001; PackageVersion: revJ, Jan-1996; PackageReference: M14A; Publisher: Altium Limited; PackageDescription: Molded Package S.O., .150in Wide, 14 Lead; RoHS: O; PinCount: 14; DigiKeyPartNumber: LP2902MXCT-ND; Code_JEDEC: MS-012AB; Code_IPC: SOIC127P600-14; ComponentLink1Description: LP2902 Datasheet; ComponentLink1URL: http://www.national.com/ds/LP/LP2902.pdf; ComponentLink2Description: LP2902 Web Page; ComponentLink2URL: http://www.national.com/pf/LP/LP2902.html; ComponentLink3Description: M14A Package Page; ComponentLink3URL: http://www.national.com/packaging/folders/m14a.html
footprint M14A_N (SOIC, 14-Leads, Body 8.6x3.9mm, Pitch 1.27mm, IPC Medium Density)
footprint M14A_L (SOIC, 14-Leads, Body 8.6x3.9mm, Pitch 1.27mm, IPC High Density)
footprint M14A_M (SOIC, 14-Leads, Body 8.6x3.9mm, Pitch 1.27mm, IPC Low Density)
pins on every part: 4 V+ (power), 11 GND (power)
part A pins: 1 OUT1 (out), 2 IN1- (in), 3 IN1+ (in)
part B pins: 5 IN2+ (in), 6 IN2- (in), 7 OUT2 (out)
part C pins: 8 OUT3 (out), 9 IN3- (in), 10 IN3+ (in)
part D pins: 12 IN4+ (in), 13 IN4- (in), 14 OUT4 (out)

## LP2902N
designator U?
Micropower Quad Operational Amplifier; PartNumber: LP2902N; Manufacturer: National Semiconductor; CompType: Amplifiers; PackageTopMarking: NSUZXYYTTE#*LP2902N; Published: 4-Dec-2008; DatasheetVersion: Jul-2001; PackageVersion: revG, May-2006; PackageReference: N14A; Publisher: Altium Limited; PackageDescription: MDIP, .750 x .250 x.130in, 14 Lead, .100in Pitch; RoHS: Y; PinCount: 14; DigiKeyPartNumber: LP2902N-ND; Code_JEDEC: MS-001-AA; ComponentLink1Description: LP2902 Datasheet; ComponentLink1URL: http://www.national.com/ds/LP/LP2902.pdf; ComponentLink2Description: LP2902 Web Page; ComponentLink2URL: http://www.national.com/pf/LP/LP2902.html; ComponentLink3Description: N14A Package Page; ComponentLink3URL: http://www.national.com/packaging/folders/n14a.html
footprint N14A (DIP, 14-Leads, Row Spacing 7.62mm, Pitch 2.54mm, Body 19.56x6.35mm)
pins on every part: 4 V+ (power), 11 GND (power)
part A pins: 1 OUT1 (out), 2 IN1- (in), 3 IN1+ (in)
part B pins: 5 IN2+ (in), 6 IN2- (in), 7 OUT2 (out)
part C pins: 8 OUT3 (out), 9 IN3- (in), 10 IN3+ (in)
part D pins: 12 IN4+ (in), 13 IN4- (in), 14 OUT4 (out)

## LPC660AIM
designator U?
Low Power CMOS Quad Operational Amplifier; PartNumber: LPC660AIM; Manufacturer: National Semiconductor; CompType: Amplifiers; PackageTopMarking: NSUZXYTT*LPC660AIM; Published: 4-Dec-2008; DatasheetVersion: Nov-2004; PackageVersion: revJ, Jan-1996; PackageReference: M14A; Publisher: Altium Limited; PackageDescription: Molded Package S.O., .150in Wide, 14 Lead; RoHS: O; PinCount: 14; DigiKeyPartNumber: LPC660AIM-ND; Code_JEDEC: MS-012AB; Code_IPC: SOIC127P600-14; ComponentLink1Description: LPC660 Datasheet; ComponentLink1URL: http://www.national.com/ds/LP/LPC660.pdf; ComponentLink2Description: LPC660 Web Page; ComponentLink2URL: http://www.national.com/pf/LP/LPC660.html; ComponentLink3Description: M14A Package Page; ComponentLink3URL: http://www.national.com/packaging/folders/m14a.html
footprint M14A_N (SOIC, 14-Leads, Body 8.6x3.9mm, Pitch 1.27mm, IPC Medium Density)
footprint M14A_L (SOIC, 14-Leads, Body 8.6x3.9mm, Pitch 1.27mm, IPC High Density)
footprint M14A_M (SOIC, 14-Leads, Body 8.6x3.9mm, Pitch 1.27mm, IPC Low Density)
pins on every part: 4 V+ (power), 11 V- (power)
part A pins: 1 OUT1 (out), 2 IN1- (in), 3 IN1+ (in)
part B pins: 5 IN2+ (in), 6 IN2- (in), 7 OUT2 (out)
part C pins: 8 OUT3 (out), 9 IN3- (in), 10 IN3+ (in)
part D pins: 12 IN4+ (in), 13 IN4- (in), 14 OUT4 (out)

## LPC660IM
designator U?
Low Power CMOS Quad Operational Amplifier; PartNumber: LPC660IM; Manufacturer: National Semiconductor; CompType: Amplifiers; PackageTopMarking: NSUZXYTT*LPC660IM; Published: 4-Dec-2008; LatestRevisionDate: 13-Jan-2009; LatestRevisionNote: Sim Model Added.; DatasheetVersion: Nov-2004; PackageVersion: revJ, Jan-1996; PackageReference: M14A; Publisher: Altium Limited; PackageDescription: Molded Package S.O., .150in Wide, 14 Lead; RoHS: O; PinCount: 14; DigiKeyPartNumber: LPC660IM-ND; Code_JEDEC: MS-012AB; Code_IPC: SOIC127P600-14; ComponentLink1Description: LPC660 Datasheet; ComponentLink1URL: http://www.national.com/ds/LP/LPC660.pdf; ComponentLink2Description: LPC660 Web Page; ComponentLink2URL: http://www.national.com/pf/LP/LPC660.html; ComponentLink3Description: M14A Package Page; ComponentLink3URL: http://www.national.com/packaging/folders/m14a.html
footprint M14A_N (SOIC, 14-Leads, Body 8.6x3.9mm, Pitch 1.27mm, IPC Medium Density)
footprint M14A_L (SOIC, 14-Leads, Body 8.6x3.9mm, Pitch 1.27mm, IPC High Density)
footprint M14A_M (SOIC, 14-Leads, Body 8.6x3.9mm, Pitch 1.27mm, IPC Low Density)
simulation model LPC660B (SUBCKT)
pins on every part: 4 V+ (power), 11 V- (power)
part A pins: 1 OUT1 (out), 2 IN1- (in), 3 IN1+ (in)
part B pins: 5 IN2+ (in), 6 IN2- (in), 7 OUT2 (out)
part C pins: 8 OUT3 (out), 9 IN3- (in), 10 IN3+ (in)
part D pins: 12 IN4+ (in), 13 IN4- (in), 14 OUT4 (out)

## LPC661IM
designator U?
Low Power CMOS Operational Amplifier; PartNumber: LPC661IM; Manufacturer: National Semiconductor; CompType: Amplifiers; PackageTopMarking: NSZXTT*LPC66*1IM; Published: 4-Dec-2008; LatestRevisionDate: 13-Jan-2009; LatestRevisionNote: Sim Model Added.; DatasheetVersion: Aug-2000; PackageVersion: revL, Sep-2006; PackageReference: M08A; Publisher: Altium Limited; PackageDescription: SOIC Narrow, 4.9 x 3.9 x 1.45mm, 8 Lead, 1.27mm Pitch; RoHS: O; PinCount: 8; DigiKeyPartNumber: LPC661IM-ND; Code_JEDEC: MS-012-AA; Code_IPC: SOIC127P600-8; ComponentLink1Description: LPC661 Datasheet; ComponentLink1URL: http://www.national.com/ds/LP/LPC661.pdf; ComponentLink2Description: LPC661 Web Page; ComponentLink2URL: http://www.national.com/pf/LP/LPC661.html; ComponentLink3Description: M08A Package Page; ComponentLink3URL: http://www.national.com/packaging/folders/m08a.html
footprint M08A_N (SOIC, 8-Leads, Body 4.9x3.9mm, Pitch 1.27mm, IPC Medium Density)
footprint M08A_L (SOIC, 8-Leads, Body 4.9x3.9mm, Pitch 1.27mm, IPC High Density)
footprint M08A_M (SOIC, 8-Leads, Body 4.9x3.9mm, Pitch 1.27mm, IPC Low Density)
simulation model LPC661B (SUBCKT)
pins: 1 NC, 2 IN- (in), 3 IN+ (in), 4 V- (power), 5 NC, 6 OUT (out), 7 V+ (power), 8 NC

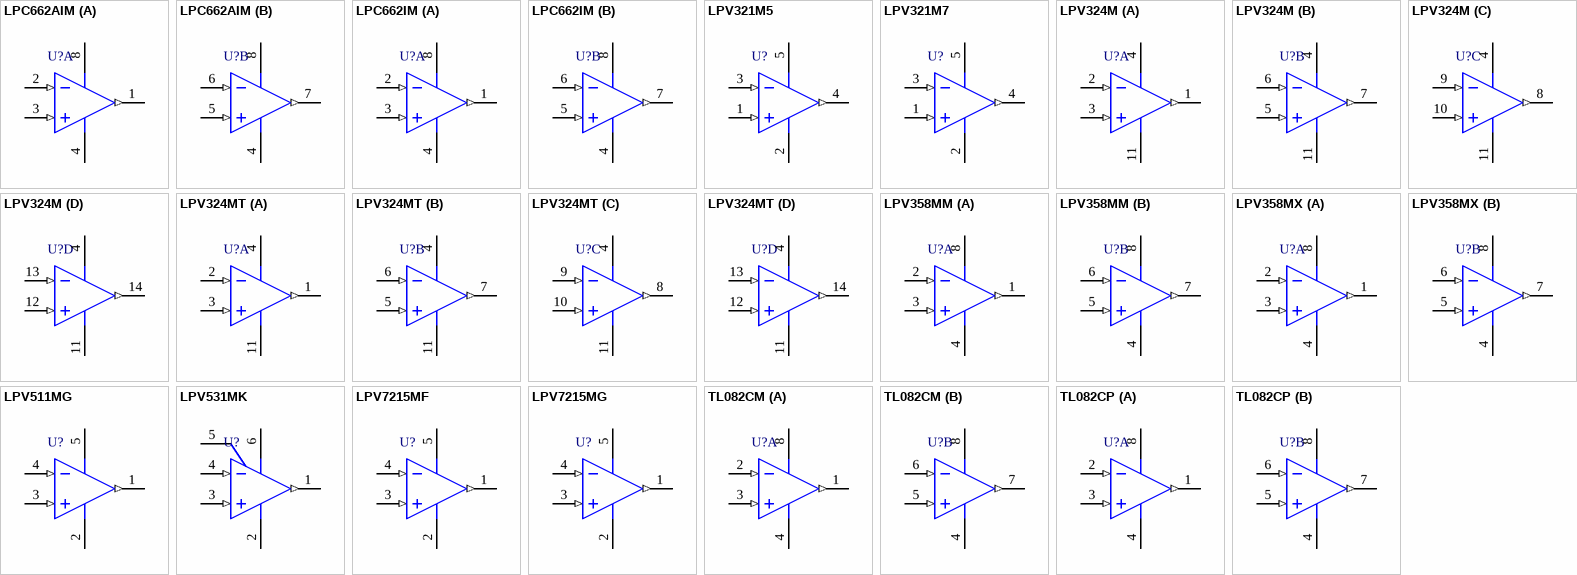
[diagram p38: symbols LPC662AIM to TL082CP]

## LPC662AIM
designator U?
Low Power CMOS Dual Operational Amplifier; PartNumber: LPC662AIM; Manufacturer: National Semiconductor; CompType: Amplifiers; PackageTopMarking: NSZXTT*LPC66*2AIM; Published: 4-Dec-2008; LatestRevisionDate: 13-Jan-2009; LatestRevisionNote: Sim Model Added.; DatasheetVersion: Aug-2000; PackageVersion: revL, Sep-2006; PackageReference: M08A; Publisher: Altium Limited; PackageDescription: SOIC Narrow, 4.9 x 3.9 x 1.45mm, 8 Lead, 1.27mm Pitch; RoHS: O; PinCount: 8; DigiKeyPartNumber: LPC662AIM-ND; Code_JEDEC: MS-012-AA; Code_IPC: SOIC127P600-8; ComponentLink1Description: LPC662 Datasheet; ComponentLink1URL: http://www.national.com/ds/LP/LPC662.pdf; ComponentLink2Description: LPC662 Web Page; ComponentLink2URL: http://www.national.com/pf/LP/LPC662.html; ComponentLink3Description: M08A Package Page; ComponentLink3URL: http://www.national.com/packaging/folders/m08a.html
footprint M08A_N (SOIC, 8-Leads, Body 4.9x3.9mm, Pitch 1.27mm, IPC Medium Density)
footprint M08A_L (SOIC, 8-Leads, Body 4.9x3.9mm, Pitch 1.27mm, IPC High Density)
footprint M08A_M (SOIC, 8-Leads, Body 4.9x3.9mm, Pitch 1.27mm, IPC Low Density)
simulation model LPC662A (SUBCKT)
pins on every part: 4 V- (power), 8 V+ (power)
part A pins: 1 OUTA (out), 2 INA- (in), 3 INA+ (in)
part B pins: 5 INB+ (in), 6 INB- (in), 7 OUTB (out)

## LPC662IM
designator U?
Low Power CMOS Dual Operational Amplifier; PartNumber: LPC662IM; Manufacturer: National Semiconductor; CompType: Amplifiers; PackageTopMarking: NSZXTT*LPC66*2IM; Published: 4-Dec-2008; LatestRevisionDate: 13-Jan-2009; LatestRevisionNote: Sim Model Added.; DatasheetVersion: Aug-2000; PackageVersion: revL, Sep-2006; PackageReference: M08A; Publisher: Altium Limited; PackageDescription: SOIC Narrow, 4.9 x 3.9 x 1.45mm, 8 Lead, 1.27mm Pitch; RoHS: Y; PinCount: 8; DigiKeyPartNumber: LPC662IM-ND; Code_JEDEC: MS-012-AA; Code_IPC: SOIC127P600-8; ComponentLink1Description: LPC662 Datasheet; ComponentLink1URL: http://www.national.com/ds/LP/LPC662.pdf; ComponentLink2Description: LPC662 Web Page; ComponentLink2URL: http://www.national.com/pf/LP/LPC662.html; ComponentLink3Description: M08A Package Page; ComponentLink3URL: http://www.national.com/packaging/folders/m08a.html
footprint M08A_N (SOIC, 8-Leads, Body 4.9x3.9mm, Pitch 1.27mm, IPC Medium Density)
footprint M08A_L (SOIC, 8-Leads, Body 4.9x3.9mm, Pitch 1.27mm, IPC High Density)
footprint M08A_M (SOIC, 8-Leads, Body 4.9x3.9mm, Pitch 1.27mm, IPC Low Density)
simulation model LPC662B (SUBCKT)
pins on every part: 4 V- (power), 8 V+ (power)
part A pins: 1 OUTA (out), 2 INA- (in), 3 INA+ (in)
part B pins: 5 INB+ (in), 6 INB- (in), 7 OUTB (out)

## LPV321M5
designator U?
General Purpose, Low Voltage, Low Power, Rail-to-Rail Output Operational Amplifiers; PartNumber: LPV321M5; Manufacturer: National Semiconductor; PackageTopMarking: A27A*XTT; Published: 4-Dec-2008; LatestRevisionDate: 13-Jan-2009; LatestRevisionNote: Sim Model Added.; DatasheetVersion: Oct-2006; PackageVersion: revD, Aug-2008; PackageReference: MF05A; Publisher: Altium Limited; PackageDescription: Molded SOT-23, .115 x .063 x .040 in Body, 5 Lead, .0375 in Pitch; CompType: Amplifiers; RoHS: O; PinCount: 5; DigiKeyPartNumber: LPV321M5CT-ND; Code_IPC: SOT23-5; ComponentLink1Description: LPV321 Datasheet; ComponentLink1URL: http://www.national.com/ds/LP/LPV321.pdf; ComponentLink2Description: LPV321 Web Page; ComponentLink2URL: http://www.national.com/pf/LP/LPV321.html; ComponentLink3Description: MF05A Package Page; ComponentLink3URL: http://www.national.com/packaging/folders/mf05a.html
footprint MF05A_N (SOT23, 5-Leads, Body 2.9x1.6mm, Pitch 0.95mm, Lead Span 2.8mm, IPC Medium Density)
footprint MF05A_L (SOT23, 5-Leads, Body 2.9x1.6mm, Pitch 0.95mm, Lead Span 2.8mm, IPC High Density)
footprint MF05A_M (SOT23, 5-Leads, Body 2.9x1.6mm, Pitch 0.95mm, Lead Span 2.8mm, IPC Low Density)
simulation model LPV321 (SUBCKT)
pins: 1 IN+ (in), 2 V- (power), 3 IN- (in), 4 OUT (out), 5 V+ (power)

## LPV321M7
designator U?
General Purpose, Low Voltage, Low Power, Rail-to-Rail Output Operational Amplifiers; PartNumber: LPV321M7; Manufacturer: National Semiconductor; PackageTopMarking: A19*XTT; Published: 4-Dec-2008; LatestRevisionDate: 13-Jan-2009; LatestRevisionNote: Sim Model Added.; DatasheetVersion: Oct-2006; PackageVersion: revD, Jun-2007; PackageReference: MAA05A; Publisher: Altium Limited; PackageDescription: Molded SC-70, 2 x 1.25 x .9mm, 5 Lead, 0.65mm Pitch; CompType: Amplifiers; RoHS: Y; PinCount: 5; DigiKeyPartNumber: LPV321M7CT-ND; Code_JEITA: SC-88A; Code_JEDEC: MO-203-AA; Code_IPC: SOT353-5; ComponentLink1Description: LPV321 Datasheet; ComponentLink1URL: http://www.national.com/ds/LP/LPV321.pdf; ComponentLink2Description: LPV321 Web Page; ComponentLink2URL: http://www.national.com/pf/LP/LPV321.html; ComponentLink3Description: MAA05A Package Page; ComponentLink3URL: http://www.national.com/packaging/folders/maa05a.html
footprint MAA05A_N (SOT353, 5-Leads, Body 2x1.3mm, Pitch 0.65mm, Lead Span 2.1mm, IPC Medium Density)
footprint MAA05A_L (SOT353, 5-Leads, Body 2x1.3mm, Pitch 0.65mm, Lead Span 2.1mm, IPC High Density)
footprint MAA05A_M (SOT353, 5-Leads, Body 2x1.3mm, Pitch 0.65mm, Lead Span 2.1mm, IPC Low Density)
simulation model LPV321 (SUBCKT)
pins: 1 IN+ (in), 2 V- (power), 3 IN- (in), 4 OUT (out), 5 V+ (power)

## LPV324M
designator U?
General Purpose, Low Voltage, Low Power, Rail-to-Rail Output Operational Amplifiers; PartNumber: LPV324M; Manufacturer: National Semiconductor; PackageTopMarking: NSUZXYTT*LPV324M; Published: 4-Dec-2008; LatestRevisionDate: 13-Jan-2009; LatestRevisionNote: Sim Model Added.; DatasheetVersion: Oct-2006; PackageVersion: revJ, Jan-1996; PackageReference: M14A; Publisher: Altium Limited; PackageDescription: Molded Package S.O., .150in Wide, 14 Lead; CompType: Amplifiers; RoHS: Y; PinCount: 14; DigiKeyPartNumber: LPV324M-ND; Code_JEDEC: MS-012AB; Code_IPC: SOIC127P600-14; ComponentLink1Description: LPV324 Datasheet; ComponentLink1URL: http://www.national.com/ds/LP/LPV324.pdf; ComponentLink2Description: LPV324 Web Page; ComponentLink2URL: http://www.national.com/pf/LP/LPV324.html; ComponentLink3Description: M14A Package Page; ComponentLink3URL: http://www.national.com/packaging/folders/m14a.html
footprint M14A_N (SOIC, 14-Leads, Body 8.6x3.9mm, Pitch 1.27mm, IPC Medium Density)
footprint M14A_L (SOIC, 14-Leads, Body 8.6x3.9mm, Pitch 1.27mm, IPC High Density)
footprint M14A_M (SOIC, 14-Leads, Body 8.6x3.9mm, Pitch 1.27mm, IPC Low Density)
simulation model LPV324 (SUBCKT)
pins on every part: 4 V+ (power), 11 V- (power)
part A pins: 1 OUTA (out), 2 INA- (in), 3 INA+ (in)
part B pins: 5 INB+ (in), 6 INB- (in), 7 OUTB (out)
part C pins: 8 OUTC (out), 9 INC- (in), 10 INC+ (in)
part D pins: 12 IND+ (in), 13 IND- (in), 14 OUTD (out)

## LPV324MT
designator U?
General Purpose, Low Voltage, Low Power, Rail-to-Rail Output Operational Amplifiers; PartNumber: LPV324MT; Manufacturer: National Semiconductor; PackageTopMarking: NSXYTT*LPV324*MT; Published: 4-Dec-2008; LatestRevisionDate: 13-Jan-2009; LatestRevisionNote: Sim Model Added.; DatasheetVersion: Oct-2006; PackageVersion: revD, Jun-2003; PackageReference: MTC14; Publisher: Altium Limited; PackageDescription: Molded TSSOP, JEDEC, 5 x 4.4 x 0.9mm Body, 14 Lead, 0.65mm Pitch; CompType: Amplifiers; RoHS: Y; PinCount: 14; DigiKeyPartNumber: LPV324MT-ND; Code_JEDEC: MO-153-AB-1; ComponentLink1Description: LPV324 Datasheet; ComponentLink1URL: http://www.national.com/ds/LP/LPV324.pdf; ComponentLink2Description: LPV324 Web Page; ComponentLink2URL: http://www.national.com/pf/LP/LPV324.html; ComponentLink3Description: MTC14 Package Page; ComponentLink3URL: http://www.national.com/packaging/folders/mtc14.html
footprint MTC14_N (TSOP, 14-Leads, Body 5x4.4mm, Pitch 0.65mm, IPC Medium Density)
footprint MTC14_L (TSOP, 14-Leads, Body 5x4.4mm, Pitch 0.65mm, IPC High Density)
footprint MTC14_M (TSOP, 14-Leads, Body 5x4.4mm, Pitch 0.65mm, IPC Low Density)
simulation model LPV324 (SUBCKT)
pins on every part: 4 V+ (power), 11 V- (power)
part A pins: 1 OUTA (out), 2 INA- (in), 3 INA+ (in)
part B pins: 5 INB+ (in), 6 INB- (in), 7 OUTB (out)
part C pins: 8 OUTC (out), 9 INC- (in), 10 INC+ (in)
part D pins: 12 IND+ (in), 13 IND- (in), 14 OUTD (out)

## LPV358MM
designator U?
General Purpose, Low Voltage, Low Power, Rail-to-Rail Output Operational Amplifiers; PartNumber: LPV358MM; Manufacturer: National Semiconductor; PackageTopMarking: ZXTT*P358; Published: 4-Dec-2008; LatestRevisionDate: 13-Jan-2009; LatestRevisionNote: Sim Model Added.; DatasheetVersion: Oct-2006; PackageVersion: revF, Apr-2008; PackageReference: MUA08A; Publisher: Altium Limited; PackageDescription: MINI SOIC, .118 x .118 x .034in, 8 Lead, .0256in Pitch; CompType: Amplifiers; RoHS: O; PinCount: 8; DigiKeyPartNumber: LPV358MMCT-ND; Code_JEDEC: MO-187-AA; ComponentLink1Description: LPV358 Datasheet; ComponentLink1URL: http://www.national.com/ds/LP/LPV358.pdf; ComponentLink2Description: LPV358 Web Page; ComponentLink2URL: http://www.national.com/pf/LP/LPV358.html; ComponentLink3Description: MUA08A Package Page; ComponentLink3URL: http://www.national.com/packaging/folders/mua08a.html
footprint MUA08A_N (TSOP, 8-Leads, Body 3x3mm, Pitch 0.65mm, IPC Medium Density)
footprint MUA08A_L (TSOP, 8-Leads, Body 3x3mm, Pitch 0.65mm, IPC High Density)
footprint MUA08A_M (TSOP, 8-Leads, Body 3x3mm, Pitch 0.65mm, IPC Low Density)
simulation model LPV358 (SUBCKT)
pins on every part: 4 V- (power), 8 V+ (power)
part A pins: 1 OUTA (out), 2 INA- (in), 3 INA+ (in)
part B pins: 5 INB+ (in), 6 INB- (in), 7 OUTB (out)

## LPV358MX
designator U?
General Purpose, Low Voltage, Low Power, Rail-to-Rail Output Operational Amplifiers; PartNumber: LPV358MX; Manufacturer: National Semiconductor; PackageTopMarking: NSZXTT*LPV*358M; Published: 4-Dec-2008; DatasheetVersion: Oct-2006; PackageVersion: revL, Sep-2006; PackageReference: M08A; Publisher: Altium Limited; PackageDescription: SOIC Narrow, 4.9 x 3.9 x 1.45mm, 8 Lead, 1.27mm Pitch; CompType: Amplifiers; RoHS: Y; PinCount: 8; DigiKeyPartNumber: LPV358M-ND; Code_JEDEC: MS-012-AA; Code_IPC: SOIC127P600-8; ComponentLink1Description: LPV358 Datasheet; ComponentLink1URL: http://www.national.com/ds/LP/LPV358.pdf; ComponentLink2Description: LPV358 Web Page; ComponentLink2URL: http://www.national.com/pf/LP/LPV358.html; ComponentLink3Description: M08A Package Page; ComponentLink3URL: http://www.national.com/packaging/folders/m08a.html
footprint M08A_N (SOIC, 8-Leads, Body 4.9x3.9mm, Pitch 1.27mm, IPC Medium Density)
footprint M08A_L (SOIC, 8-Leads, Body 4.9x3.9mm, Pitch 1.27mm, IPC High Density)
footprint M08A_M (SOIC, 8-Leads, Body 4.9x3.9mm, Pitch 1.27mm, IPC Low Density)
pins on every part: 4 V- (power), 8 V+ (power)
part A pins: 1 OUTA (out), 2 INA- (in), 3 INA+ (in)
part B pins: 5 INB+ (in), 6 INB- (in), 7 OUTB (out)